# EAGLE library part MPU9255 (library SpatiumB)
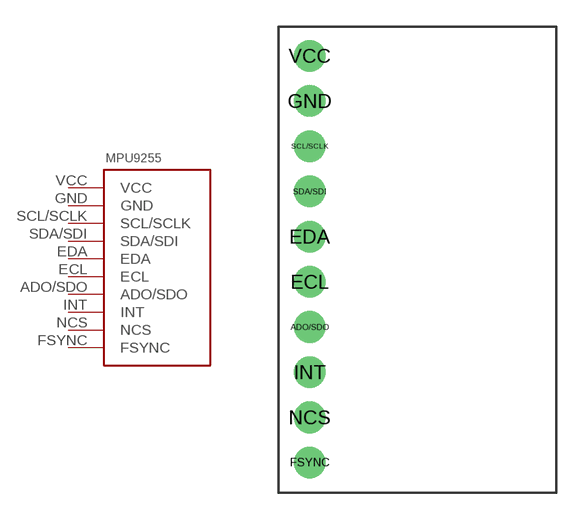
[diagram p5: symbol with the pads of MPU9255; footprint MPU9255]

Designator prefix -

## MPU9255  [MPU9255]
ADO/SDO  ADO/SDO
ECL  ECL
EDA  EDA
FSYNC  FSYNC
GND  GND
INT  INT
NCS  NCS
SCL/SCLK  SCL/SCLK
SDA/SDI  SDA/SDI
VCC  VCC

## Footprint MPU9255 (pad centres in mm)
drill 0.9 pad 1.778: ADO/SDO -5.94,-4.18; ECL -5.94,-1.64; EDA -5.94,0.9; FSYNC -5.94,-11.8; GND -5.94,8.52; INT -5.94,-6.72; NCS -5.94,-9.26; SCL/SCLK -5.94,5.98; SDA/SDI -5.94,3.44; VCC -5.94,11.06